# Altium schematic symbol library 2019-09-07_20-25-18.SchLib: 2 symbols
Pins are listed as number, name and electrical type; pins without a type are passive.

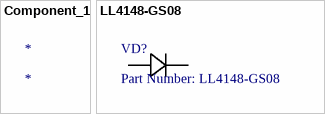
[diagram p0: symbols Component_1 to LL4148-GS08]

## Component_1
designator *

## LL4148-GS08
designator VD?, comment Part Number: LL4148-GS08
No Description Available; Vendor: Vishay; Built_By: EMA_UL_Team; Type: DEV; Manufacturer_Part_Number: LL4148-GS08; Copyright: Copyright (C) 2018 Accelerated Designs. All rights reserved; RefDes: RefDes; Value: Value
footprint MELF_SOD-80
pins: 1, 2